# EAGLE library part AT90USB162 (library DD_adafruit)
MICROCONTROLLER 8 Kbytes FLASH 1 kbytes SRAM 512 bytes EEPROM USART 6-channel 10 bit ADC 2-channel 8 bit ADC
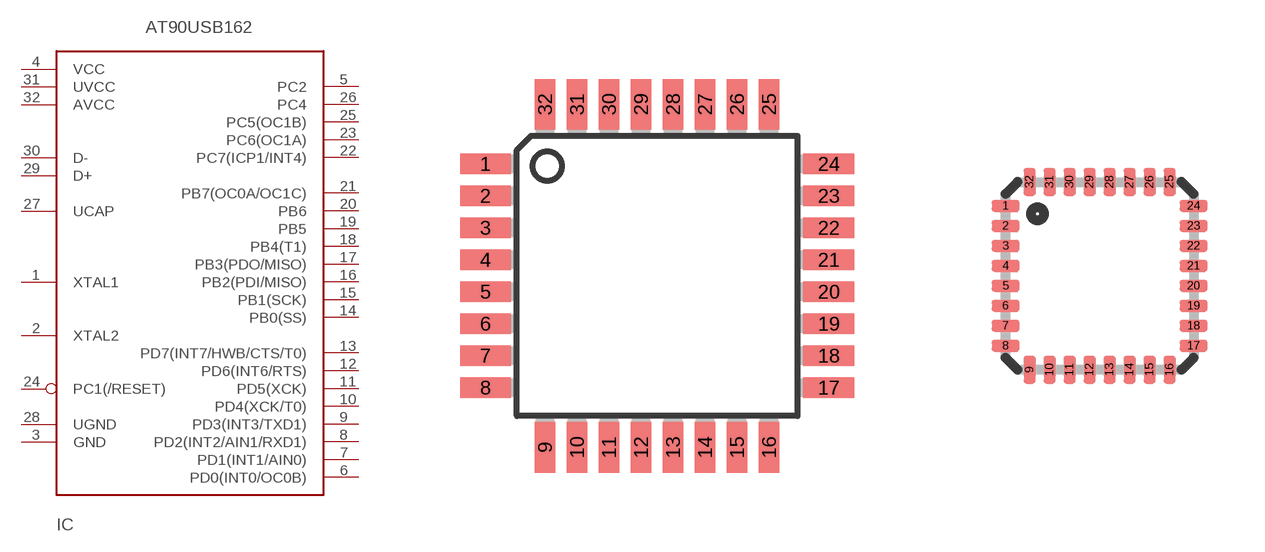
[diagram p50: symbol with the pads of TQFP32-08; footprints TQFP32-08, MLF32]

Designator prefix IC

## AT90USB162A  [TQFP32-08]
1  XTAL1
2  XTAL2
3  GND
4  VCC
5  PC2
6  PD0(INT0/OC0B)
7  PD1(INT1/AIN0)
8  PD2(INT2/AIN1/RXD1)
9  PD3(INT3/TXD1)
10  PD4(XCK/T0)
11  PD5(XCK)
12  PD6(INT6/RTS)
13  PD7(INT7/HWB/CTS/T0)
14  PB0(SS)
15  PB1(SCK)
16  PB2(PDI/MISO)
17  PB3(PDO/MISO)
18  PB4(T1)
19  PB5
20  PB6
21  PB7(OC0A/OC1C)
22  PC7(ICP1/INT4)
23  PC6(OC1A)
24  PC1(/RESET)
25  PC5(OC1B)
26  PC4
27  UCAP
28  UGND
29  D+
30  D-
31  UVCC
32  AVCC

## AT90USB162QFN  [MLF32]
Pads as for TQFP32-08

## Footprint TQFP32-08 (pad centres in mm)
Thin Plasic Quad Flat Package Grid 0.8 mm
smd 1.27 x 0.508: 1 -4.293,2.8; 2 -4.293,2; 3 -4.293,1.2; 4 -4.293,0.4; 5 -4.293,-0.4; 6 -4.293,-1.2; 7 -4.293,-2; 8 -4.293,-2.8; 17 4.293,-2.8; 18 4.293,-2; 19 4.293,-1.2; 20 4.293,-0.4; 21 4.293,0.4; 22 4.293,1.2; 23 4.293,2; 24 4.293,2.8
smd 0.508 x 1.27: 9 -2.8,-4.293; 10 -2,-4.293; 11 -1.2,-4.293; 12 -0.4,-4.293; 13 0.4,-4.293; 14 1.2,-4.293; 15 2,-4.293; 16 2.8,-4.293; 25 2.8,4.293; 26 2,4.293; 27 1.2,4.293; 28 0.4,4.293; 29 -0.4,4.293; 30 -1.2,4.293; 31 -2,4.293; 32 -2.8,4.293

## Footprint MLF32 (pad centres in mm)
32M1-A Micro Lead Frame package (MLF) Source: http://www.atmel.com .. doc1477.pdf
smd 0.7 x 0.3: 1 -2.35,1.75; 2 -2.35,1.25; 3 -2.35,0.75; 4 -2.35,0.25; 5 -2.35,-0.25; 6 -2.35,-0.75; 7 -2.35,-1.25; 8 -2.35,-1.75; 17 2.35,-1.75; 18 2.35,-1.25; 19 2.35,-0.75; 20 2.35,-0.25; 21 2.35,0.25; 22 2.35,0.75; 23 2.35,1.25; 24 2.35,1.75
smd 0.3 x 0.7: 9 -1.75,-2.35; 10 -1.25,-2.35; 11 -0.75,-2.35; 12 -0.25,-2.35; 13 0.25,-2.35; 14 0.75,-2.35; 15 1.25,-2.35; 16 1.75,-2.35; 25 1.75,2.35; 26 1.25,2.35; 27 0.75,2.35; 28 0.25,2.35; 29 -0.25,2.35; 30 -0.75,2.35; 31 -1.25,2.35; 32 -1.75,2.35